# EAGLE library part SMD-BLACK-FEMALE-HEADER(10P-2.0) (library Headerlibrary)
320030097
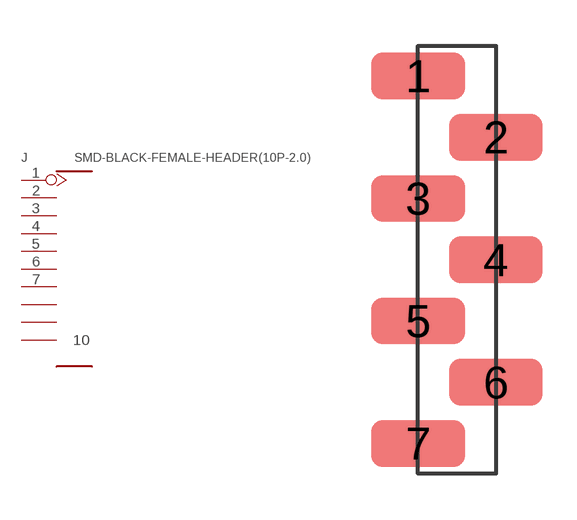
[diagram p44: symbol with the pads of HW10-2.0; footprint HW10-2.0]

Designator prefix J

## SMD-BLACK-FEMALE-HEADER(10P-2.0)-2-SMD  [HW10-2.0]
1  1
2  2
3  3
4  4
5  5
6  6
7  7

## Footprint HW10-2.0 (pad centres in mm)
smd 3.048 x 1.524: 1 -1.27,6; 2 1.27,4; 3 -1.27,2; 4 1.27,0; 5 -1.27,-2; 6 1.27,-4; 7 -1.27,-6